# EAGLE library part ICE40UL1K-SWG16 (library iCE40UL1K-SWG16)
iCE40UL1K-SWG16
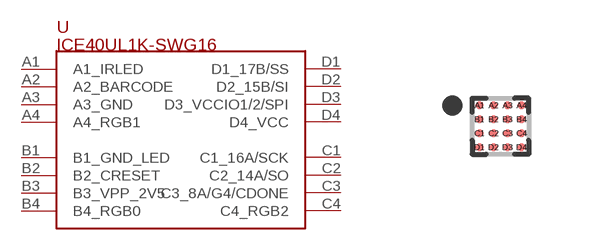
[diagram p0: symbol with the pads of BGA16C35P4X4_140X140X49N; footprint BGA16C35P4X4_140X140X49N]

Designator prefix -

## ICE40UL1K-SWG16  [BGA16C35P4X4_140X140X49N]
A1  A1_IRLED
A2  A2_BARCODE
A3  A3_GND
A4  A4_RGB1
B1  B1_GND_LED
B2  B2_CRESET
B3  B3_VPP_2V5
B4  B4_RGB0
C1  C1_16A/SCK
C2  C2_14A/SO
C3  C3_8A/G4/CDONE
C4  C4_RGB2
D1  D1_17B/SS
D2  D2_15B/SI
D3  D3_VCCIO1/2/SPI
D4  D4_VCC

## Footprint BGA16C35P4X4_140X140X49N (pad centres in mm)
16-BGA, collapsing, 0.35 mm pitch, 1.41 X 1.41 X 0.49 mm body 16-pin collapsing BGA package with 0.35 mm col pitch and 0.35 mm row pitch with body size 1.41 X 1.41 X 0.49 mm
smd 0.2 x 0.2: A1 -0.525,0.525; A2 -0.175,0.525; A3 0.175,0.525; A4 0.525,0.525; B1 -0.525,0.175; B2 -0.175,0.175; B3 0.175,0.175; B4 0.525,0.175; C1 -0.525,-0.175; C2 -0.175,-0.175; C3 0.175,-0.175; C4 0.525,-0.175; D1 -0.525,-0.525; D2 -0.175,-0.525; D3 0.175,-0.525; D4 0.525,-0.525